# Altium footprint library rpi_adapter.PcbLib: 5 footprints
Each footprint in its own frame and in the unit in brackets; x right, y up, seen from the top. Pads: shape width x height; smd on the part's side, far side on the other; paste and mask are expansions set on the pad; w line width, h text height; cw(c..) or ccw(c..) is an arc to the next point about the centre after c.
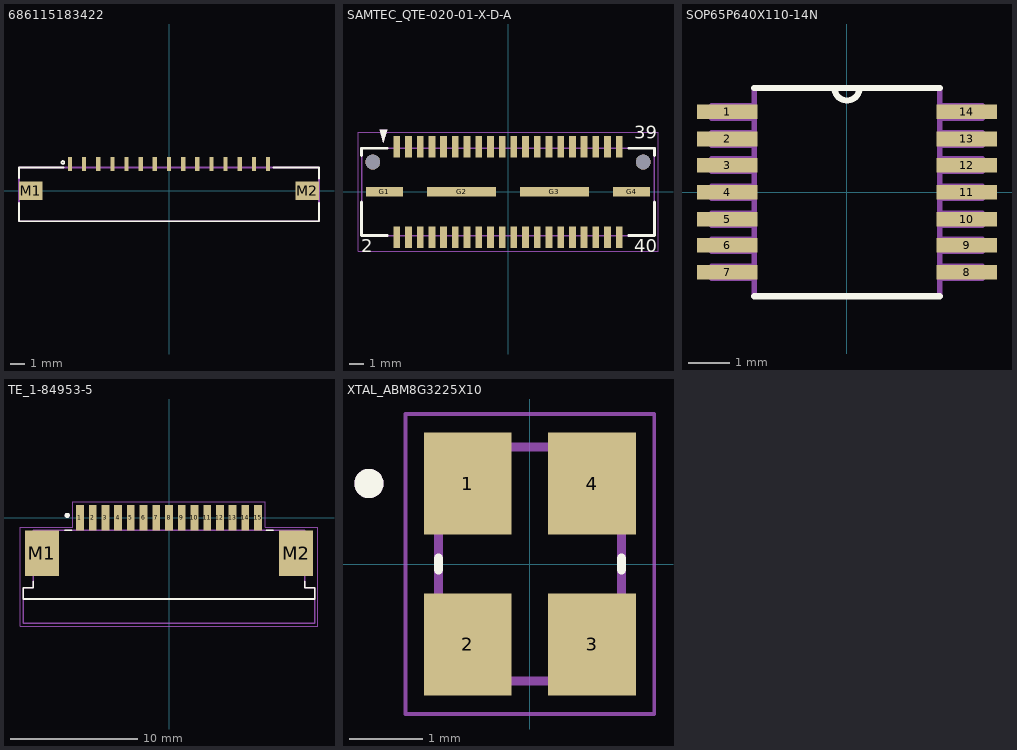
[diagram p0: the footprints below, top view; thin cyan lines are the x and y axes]

## 686115183422 [mm]
pads (17):
  rect 0.3x1 smd: 1(-7,1.9) 2(-6,1.9) 3(-5,1.9) 4(-4,1.9) 5(-3,1.9) 6(-2,1.9) 7(-1,1.9) 8(0,1.9) 9(1,1.9) 10(2,1.9) 11(3,1.9) 12(4,1.9) 13(5,1.9) 14(6,1.9) 15(7,1.9)
  rect 1.65x1.3 smd: M1(-9.775,0) M2(9.775,0)
Top Overlay:
  circle w0.127: c-7.5,2 r0.1
  lines w0.127: -10.6,-0.84 -10.6,-2.15 10.6,-2.15 10.6,-0.84 ; -10.6,0.88 -10.6,1.65 -7.46,1.65 ; 7.39,1.65 10.6,1.65 10.6,0.87
Mechanical 13:
  lines w0.127: -10.6,-2.15 10.6,-2.15 10.6,1.65 -10.6,1.65 -10.6,-2.15
  text ".Designator" at -1.293,-0.518 h1.27
3D body "686115183422.stp": height 1.28, standoff -0.02, extent -10.6,-2.15 10.6,2.1

## SAMTEC_QTE-020-01-X-D-A [mm]
pads (46):
  rect 0.46x1.45 smd: 01(-7.6,3.09) 02(-7.6,-3.09) 03(-6.8,3.09) 04(-6.8,-3.09) 05(-6,3.09) 06(-6,-3.09) 07(-5.2,3.09) 08(-5.2,-3.09) 09(-4.4,3.09) 10(-4.4,-3.09) 11(-3.6,3.09) 12(-3.6,-3.09) 13(-2.8,3.09) 14(-2.8,-3.09) 15(-2,3.09) 16(-2,-3.09) 17(-1.2,3.09) 18(-1.2,-3.09) 19(-0.4,3.09) 20(-0.4,-3.09) 21(0.4,3.09) 22(0.4,-3.09) 23(1.2,3.09) 24(1.2,-3.09) 25(2,3.09) 26(2,-3.09) 27(2.8,3.09) 28(2.8,-3.09) 29(3.6,3.09) 30(3.6,-3.09) 31(4.4,3.09) 32(4.4,-3.09) 33(5.2,3.09) 34(5.2,-3.09) 35(6,3.09) 36(6,-3.09) 37(6.8,3.09) 38(6.8,-3.09) 39(7.6,3.09) 40(7.6,-3.09)
  rect 2.54x0.64 smd: G1(-8.445,0) G4(8.445,0)
  rect 4.7x0.64 smd: G2(-3.175,0) G3(3.175,0)
  round 1.02 hole 1.02 unplated: ""(-9.24,2.04) ""(9.24,2.04)
Top Overlay:
  region: -8.509,3.365 -8.255,4.255 -8.763,4.255
  lines w0.2: -10,-0.7 -10,-2.984 -8.25,-2.984 ; -10,2.5 -10,2.984 -8.25,2.984 ; 8.25,-2.984 10,-2.984 10,-0.7 ; 8.25,2.984 10,2.984 10,2.5
  text "2" at -10.033,-4.445 h1.52
  text "39" at 8.636,3.32 h1.52
  text "40" at 8.636,-4.427 h1.52
Mechanical 13:
  region: -8.509,3.365 -8.255,4.255 -8.763,4.255
  lines w0.1: -10,-2.984 10,-2.984 10,2.984 -10,2.984 -10,-2.984
  text ".Designator" at -0.527,-0.312 h1.27
  text "40" at 8.636,-4.427 h1.52
  text "2" at -10.033,-4.445 h1.52
  text "39" at 8.636,3.32 h1.52
Mechanical 15:
  lines w0.05: -10.25,-4.065 -10.25,4.065 10.25,4.065 10.25,-4.065 -10.25,-4.065
3D body "QTE-020-01-F-D-A.stp": height 4.26, standoff -0.71, extent -10.008,-3.556 10.008,3.556

## SOP65P640X110-14N [mil]
pads (14):
  rect 58x14 smd: 1(-115,77) 2(-115,51) 3(-115,26) 4(-115,0) 5(-115,-26) 6(-115,-51) 7(-115,-77) 8(115,-77) 9(115,-51) 10(115,-26) 11(115,0) 12(115,26) 13(115,51) 14(115,77)
Top Overlay:
  lines w6: -89,-100 89,-100 ; -89,100 -12,100 ; 89,100 12,100 ; -12,100 ccw(c0,100) 12,100 ; -12,100 12,100
Mechanical 13:
  lines w5: -12,100 ccw(c0,100) 12,100 ; -12,100 -89,100 -89,-100 89,-100 89,100 12,100 ; -12,100 12,100 ; -130,-83 -89,-83 -89,-71 -130,-71 -130,-83 ; -130,-57 -89,-57 -89,-45 -130,-45 -130,-57 ; -130,-32 -89,-32 -89,-20 -130,-20 -130,-32 ; -130,-6 -89,-6 -89,6 -130,6 -130,-6 ; -130,20 -89,20 -89,32 -130,32 -130,20 ; -130,45 -89,45 -89,57 -130,57 -130,45 ; -130,71 -89,71 -89,83 -130,83 -130,71 ; 89,-83 130,-83 130,-71 89,-71 89,-83 ; 89,-57 130,-57 130,-45 89,-45 89,-57 ; 89,-32 130,-32 130,-20 89,-20 89,-32 ; 89,-6 130,-6 130,6 89,6 89,-6 ; 89,20 130,20 130,32 89,32 89,20 ; 89,45 130,45 130,57 89,57 89,45 ; 89,71 130,71 130,83 89,83 89,71
  text ".Designator" at -18.31,-14.45 h50
3D body "SOT402-1_NXP.step": height 43.43, standoff 0, extent -130,-100.51 130,100.51

## TE_1-84953-5 [mm]
pads (17):
  rect 0.61x2 smd: 1(-7,0) 2(-6,0) 3(-5,0) 4(-4,0) 5(-3,0) 6(-2,0) 7(-1,0) 8(0,0) 9(1,0) 10(2,0) 11(3,0) 12(4,0) 13(5,0) 14(6,0) 15(7,0)
  rect 2.68x3.6 smd: M1(-9.99,-2.8) M2(9.99,-2.8)
Top Overlay:
  circle w0.2: c-8,0.17 r0.1
  lines w0.127: -10.675,-5 -10.675,-5.51 -11.46,-5.51 -11.46,-6.4 11.46,-6.4 11.46,-5.51 10.675,-5.51 10.675,-5 ; -8.2,-1 -7.64,-1 ; 7.64,-1 8.2,-1
Mechanical 13:
  circle w0.2: c-8,0.17 r0.1
  lines w0.127: -11.46,-6.4 -11.46,-5.51 -10.675,-5.51 -10.675,-1 10.675,-1 10.675,-5.51 11.46,-5.51 11.46,-6.4 ; -11.46,-6.4 11.46,-6.4 ; -11.46,-6.4 -11.46,-8.3 11.46,-8.3 11.46,-6.4
  text ".Designator" at -0.99,-4.047 h1.27
Mechanical 15:
  lines w0.05: -11.71,-8.55 -11.71,-0.75 -7.555,-0.75 -7.555,1.25 7.555,1.25 7.555,-0.75 11.71,-0.75 11.71,-8.55 -11.71,-8.55
3D body "c-1-84953-5-a-3d.stp": height 2.56, standoff -0.1, extent -11.46,-6.4 11.46,0.15

## XTAL_ABM8G3225X10 [mm]
height 1
pads (4):
  rect 1.2x1.4 smd: 1(-0.85,1.1) 2(-0.85,-1.1) 3(0.85,-1.1) 4(0.85,1.1)
Top Overlay:
  circle w0.2: c-2.2,1.1 r0.1
  lines w0.127: -1.25,-0.08 -1.25,0.08 ; 1.25,-0.08 1.25,0.08
Mechanical 13:
  circle w0.2: c-2.2,1.1 r0.1
  lines w0.127: -1.25,-1.6 -1.25,1.6 1.25,1.6 1.25,-1.6 -1.25,-1.6
  text ".Designator" at -0.663,-0.364 h1.27
Mechanical 15:
  lines w0.05: -1.7,-2.05 -1.7,2.05 1.7,2.05 1.7,-2.05 -1.7,-2.05
3D body "step_temp.STEP": height 0.99, standoff 0, extent -1.245,-1.6 1.245,1.6